# Altium schematic symbol library SER1052-402MLB.SchLib: 2 symbols
Pins are listed as number, name and electrical type; pins without a type are passive.

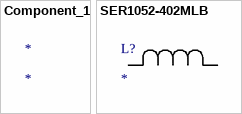
[diagram p0: symbols Component_1 to SER1052-402MLB]

## Component_1
designator *

## SER1052-402MLB
designator L?
No Description Available; Mfr_Name: Coilcraft
footprint IND_SER1052_COC
pins: 1, 2